# Altium schematic symbol library Encoder.SchLib: 1 symbol
Pins are listed as number, name and electrical type; pins without a type are passive.

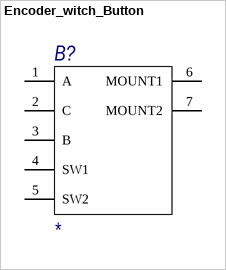
[diagram p0: symbol Encoder_witch_Button]

## Encoder_witch_Button
designator B?
Other: *; Name: *
footprint PEC11R
pins: 1 A, 2 C, 3 B, 4 SW1, 5 SW2, 6 MOUNT1, 7 MOUNT2